# EAGLE library part ICHIGOJAM_SHIELD (library FaBo-Boards)
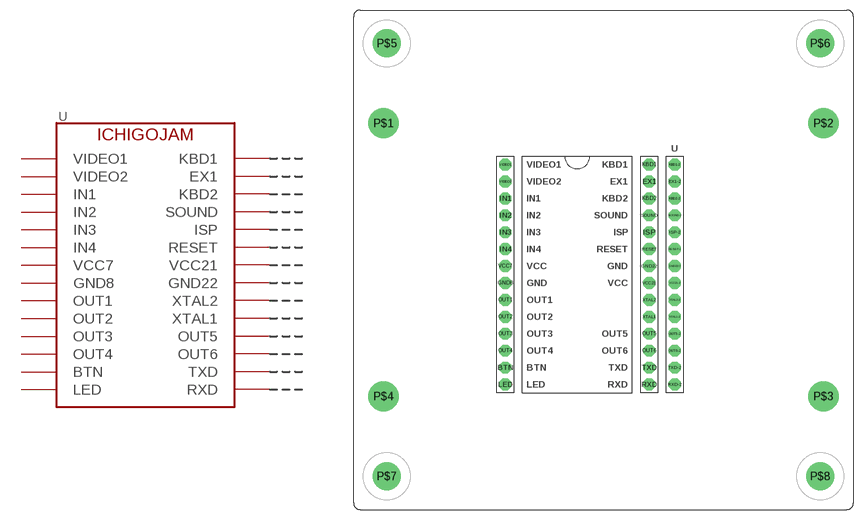
[diagram p3: symbol with the pads of ICHIGOJAM_SHIELD_HOLE_DIM; footprint ICHIGOJAM_SHIELD_HOLE_DIM]

Designator prefix U

## ICHIGOJAM_SHIELD  [ICHIGOJAM_SHIELD_HOLE_DIM]
BTN  BTN
EX1  EX1
EX1-2  EX1-2
GND8  GND8
GND22  GND22
GND22-2  GND22-2
IN1  IN1
IN2  IN2
IN3  IN3
IN4  IN4
ISP  ISP
ISP-2  ISP-2
KBD1  KBD1
KBD1-2  KBD1-2
KBD2  KBD2
KBD2-2  KBD2-2
LED  LED
OUT1  OUT1
OUT2  OUT2
OUT3  OUT3
OUT4  OUT4
OUT5  OUT5
OUT5-2  OUT5-2
OUT6  OUT6
OUT6-2  OUT6-2
RESET  RESET
RESET-2  RESET-2
RXD  RXD
RXD-2  RXD-2
SOUND  SOUND
SOUND-2  SOUND-2
TXD  TXD
TXD-2  TXD-2
VCC7  VCC7
VCC21  VCC21
VCC21-2  VCC21-2
VIDEO1  VIDEO1
VIDEO2  VIDEO2
XTAL1  XTAL1
XTAL1-2  XTAL1-2
XTAL2  XTAL2
XTAL2-2  XTAL2-2

## Footprint ICHIGOJAM_SHIELD_HOLE_DIM (pad centres in mm)
drill 1 pad 1.778 octagon: BTN -10.795,-13.97; EX1 10.795,13.97; EX1-2 14.605,13.97; GND8 -10.795,-1.27; GND22 10.795,1.27; GND22-2 14.605,1.27; IN1 -10.795,11.43; IN2 -10.795,8.89; IN3 -10.795,6.35; IN4 -10.795,3.81; ISP 10.795,6.35; ISP-2 14.605,6.35; KBD1 10.795,16.51; KBD1-2 14.605,16.51; KBD2 10.795,11.43; KBD2-2 14.605,11.43; LED -10.795,-16.51; OUT1 -10.795,-3.81; OUT2 -10.795,-6.35; OUT3 -10.795,-8.89; OUT4 -10.795,-11.43; OUT5 10.795,-8.89; OUT5-2 14.605,-8.89; OUT6 10.795,-11.43; OUT6-2 14.605,-11.43; RESET 10.795,3.81; RESET-2 14.605,3.81; RXD 10.795,-16.51; RXD-2 14.605,-16.51; SOUND 10.795,8.89; SOUND-2 14.605,8.89; TXD 10.795,-13.97; TXD-2 14.605,-13.97; VCC7 -10.795,1.27; VCC21 10.795,-1.27; VCC21-2 14.605,-1.27; VIDEO1 -10.795,16.51; VIDEO2 -10.795,13.97; XTAL1 10.795,-6.35; XTAL1-2 14.605,-6.35; XTAL2 10.795,-3.81; XTAL2-2 14.605,-3.81
drill 3.5: P$1 -29.065,22.72; P$2 36.935,22.72; P$3 36.935,-18.28; P$4 -29.065,-18.28
drill 3.2: P$5 -28.565,34.72; P$6 36.435,34.72; P$7 -28.565,-30.28; P$8 36.435,-30.28